# Altium schematic symbol library SIM5320 sch.SchLib: 1 symbol
Pins are listed as number, name and electrical type; pins without a type are passive.

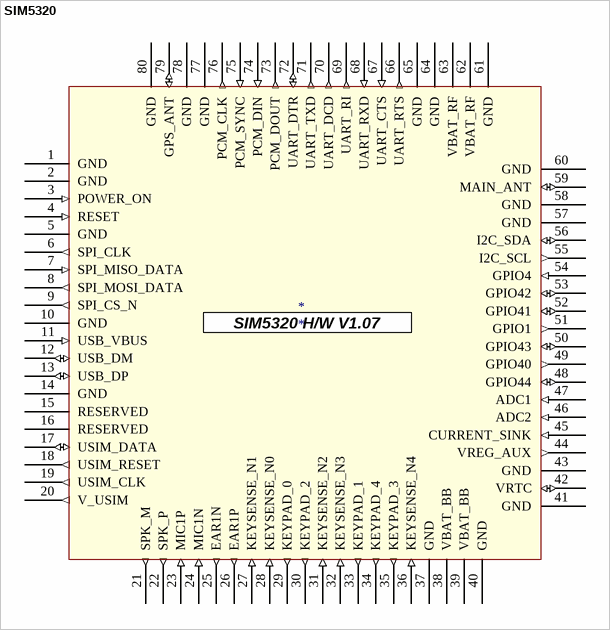
[diagram p0: symbol SIM5320]

## SIM5320
designator *
footprint SIM5320
pins: 1 GND (power), 2 GND (power), 3 POWER_ON (in) "POWER_ON should be pulled low at least 64ms to power on or 500ms to power off the module", 4 RESET (in) "System reset in, active low.", 5 GND (power), 6 SPI_CLK (out) "SPI clock", 7 SPI_MISO_DATA (in) "SPI (master only) master in/slave out data", 8 SPI_MOSI_DATA (out) "SPI (master only) master out/slave in data", 9 SPI_CS_N (out) "SPI chip-select", 10 GND (power), 11 USB_VBUS (in) "USB power supply input", 12 USB_DM (io) "Minus (-) line of the differential, bi-directional USB signal to/from the  peripheral device.", 13 USB_DP (io) "Plus (+) line of the differential, bi-directional USB signal to/from the peripheral device.", 14 GND (power), 15 RESERVED, 16 RESERVED, 17 USIM_DATA (io) "SIM Data Output/Input", 18 USIM_RESET (out) "SIM Reset", 19 USIM_CLK (out) "SIM Clock", 20 V_USIM (out) "Voltage Supply for SIM card Support 1.8V or 3V SIM card", 21 SPK_M (out) "Differential audio output", 22 SPK_P (out) "Differential audio output", 23 MIC1P (in) "Differential audio input", 24 MIC1N (in) "Differential audio input", 25 EAR1N (out) "Differential audio output", 26 EAR1P (out) "Differential audio output", 27 KEYSENSE_N1 (in) "Bit 1 for sensing key press on pad matrix", 28 KEYSENSE_N0 (in) "Bit 0 for sensing key press on pad matrix", 29 KEYPAD_0 (out) "Bit 0 drive to the pad matrix", 30 KEYPAD_2 (out) "Bit 2 drive to the pad matrix", 31 KEYSENSE_N2 (in) "Bit 2 for sensing key press on pad matrix", 32 KEYSENSE_N3 (in) "Bit 3 for sensing key press on pad matrix", 33 KEYPAD_1 (out) "Bit 1 drive to the pad matrix", 34 KEYPAD_4 (out) "Bit 4 drive to the pad matrix", 35 KEYPAD_3 (out) "Bit 3 drive to the pad matrix", 36 KEYSENSE_N4 (in) "Bit 4 for sensing key press on pad matrix", 37 GND (power), 38 VBAT_BB (power) "Power supply voltage", 39 VBAT_BB (power) "Power supply voltage", 40 GND (power), 41 GND (power), 42 VRTC (io) "Power supply for RTC", 43 GND (power), 44 VREG_AUX (out) "LDO power output", 45 CURRENT_SINK (in) "Current source of ground-referenced  current sink", 46 ADC2 (in) "Battery temperature ADC input pin", 47 ADC1 (in) "Analog Digital Converter Input", 48 GPIO44 (io) "General input/output PIN.", 49 GPIO40 (out) "Output PIN as operating status indicating of module.", 50 GPIO43 (io) "General input/output PIN. It can be used as wake/interrupt signal to module from host.", 51 GPIO1 (out) "Output PIN as LED control for network status.", 52 GPIO41 (io) "General input/output PIN. It can be used as wakGeneral input/output PIN. It can be used as wake/interrupt signal to host from module", 53 GPIO42 (io) "General input/output PIN.", 54 GPIO4 (in) "Input PIN as RF operating control.", 55 I2C_SCL (out) "I2C clock output", 56 I2C_SDA (io) "I2C data", 57 GND (power), 58 GND (power), 59 MAIN_ANT (io) "ANT soldering pad", 60 GND (power), 61 GND (power), 62 VBAT_RF (power) "Power supply voltage", 63 VBAT_RF (power) "Power supply voltage", 64 GND (power), 65 GND (power), 66 UART_RTS (out) "Request to send", 67 UART_CTS (in) "Clear to Send", 68 UART_RXD (in) "Receive Data", 69 UART_RI (out) "Ring Indicator", 70 UART_DCD (out) "Carrier detects", 71 UART_TXD (out) "Transmit Data", 72 UART_DTR (io) "DTE get ready", 73 PCM_DOUT (out) "General Output PIN. It also can be multiplexed as the PCM_DOUT pin.", 74 PCM_DIN (in) "General Input PIN with module wake/interrupt. It also can be multiplexed as the PCM_DIN pin.", 75 PCM_SYNC (in) "General Input PIN. It also can be multiplexed as the PCM_SYNC pin.", 76 PCM_CLK (out) "General Output PIN. It also can be multiplexed as the PCM_CLK pin.", 77 GND (power), 78 GND (power), 79 GPS_ANT (io) "GPS ANT soldering pad", 80 GND (power)
text: SIM5320 H/W V1.07